# Altium schematic symbol library R0.25S-0505_E.SchLib: 1 symbol
Pins are listed as number, name and electrical type; pins without a type are passive.

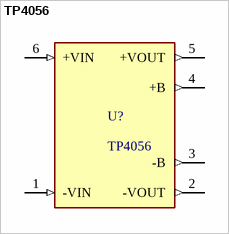
[diagram p0: symbol TP4056]

## TP4056
designator U?
Charge module Li-ion
footprint CONV_R0.25S-0505/E
pins: 1 -VIN (in), 2 -VOUT (out), 3 -B (out), 4 +B (out), 5 +VOUT (out), 6 +VIN (in)